# Altium footprint library SOT-666.PcbLib: 1 footprints
Each footprint in its own frame and in the unit in brackets; x right, y up, seen from the top. Pads: shape width x height; smd on the part's side, far side on the other; paste and mask are expansions set on the pad; w line width, h text height; cw(c..) or ccw(c..) is an arc to the next point about the centre after c.
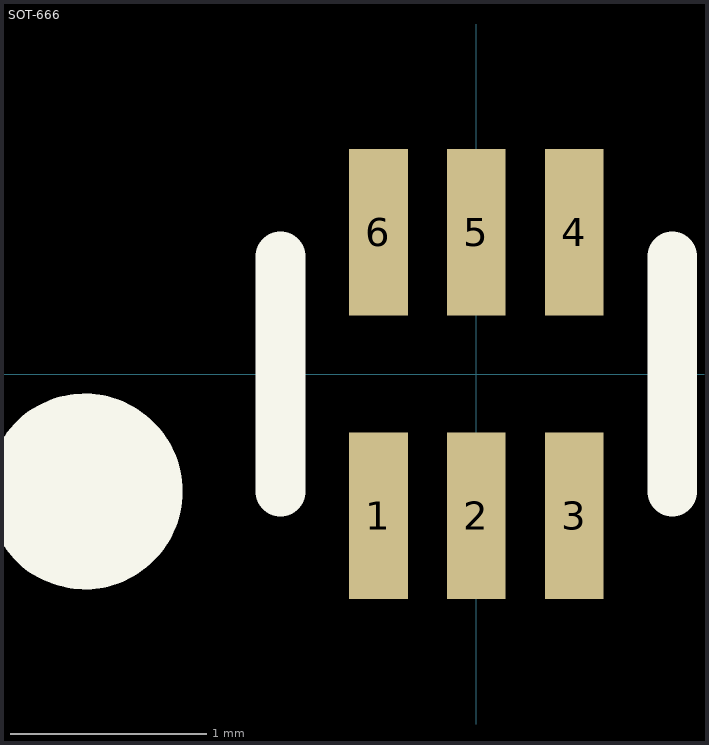
[diagram p0: the footprint, top view; thin cyan lines are the x and y axes]

## SOT-666 [mm]
pads (6):
  rect 0.3x0.85 smd: 1(-0.5,-0.725) 2(0,-0.725) 3(0.5,-0.725) 4(0.5,0.725) 5(0,0.725) 6(-0.5,0.725)
Top Overlay:
  circle w0.5: c-2,-0.6 r0.25
  lines w0.254: -1,-0.6 -1,0.6 ; 1,-0.6 1,0.6